# Altium schematic symbol library SENS - Microphones.SchLib: 1 symbol
Pins are listed as number, name and electrical type; pins without a type are passive.

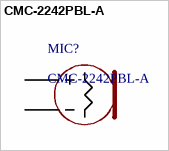
[diagram p0: symbol CMC-2242PBL-A]

## CMC-2242PBL-A
designator MIC?
MIC COND ANALOG OMNI -42DB; Manufacturer: CUI Inc.; Direction: Omnidirectional; Frequency Range: 100Hz ~ 20kHz; Sensitivity: -42dB ±3dB @ 94dB SPL; S/N Ratio: 58dB; Impedance: 2.2 kOhm; Voltage - Rated: 2V; Voltage Range: 2 ~ 10V; Current - Supply: 500µA; Port Location: Top; Seal Rating: None; Shape: Circular; Supplier 1: Digi-Key; Supplier Part Number 1: 102-1727-ND; Manufacturer Part Number: CMC-2242PBL-A; RoHS: RoHS Compliant; Category: Audio Products; Stock 1: 12966; Pricing 1: 1=2.1, 10=1.833, 25=1.426, 50=1.2902, 100=1.1543, 250=1.12036, 500=1.0864, 1000=0.98455, 5000=0.8827 (USD); Packaging: Bulk; Part Status: Active; Type: Electret Condenser; Output Type: Analog; Termination: PC Pins; Size / Dimension: 0.236" Dia (6.00mm); Height (Max): 0.094" (2.40mm); ComponentLink1URL: http://www.cui.com/product/resource/digikeypdf/cmc-2242pbl-a.pdf; ComponentLink1Description: http://www.cui.com/product/resource/digikeypdf/cmc-2242pbl-a.pdf
footprint MIC Dia 6.00mm
pins: 1 +, 2 -